# Altium schematic symbol library Alarm.SchLib: 1 symbol
Pins are listed as number, name and electrical type; pins without a type are passive.

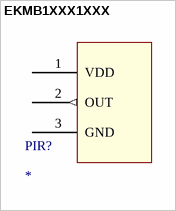
[diagram p0: symbol EKMB1XXX1XXX]

## EKMB1XXX1XXX
designator PIR?
Panasonic digital PIR sensor
footprint EKMB1X-03/04-1XXX
pins: 1 VDD (power) "Power Supply", 2 OUT (out) "Output Trigger", 3 GND (power) "Ground"